# Altium schematic symbol library ThangTM_Sch.SchLib: 137 symbols (part 4 of 4)
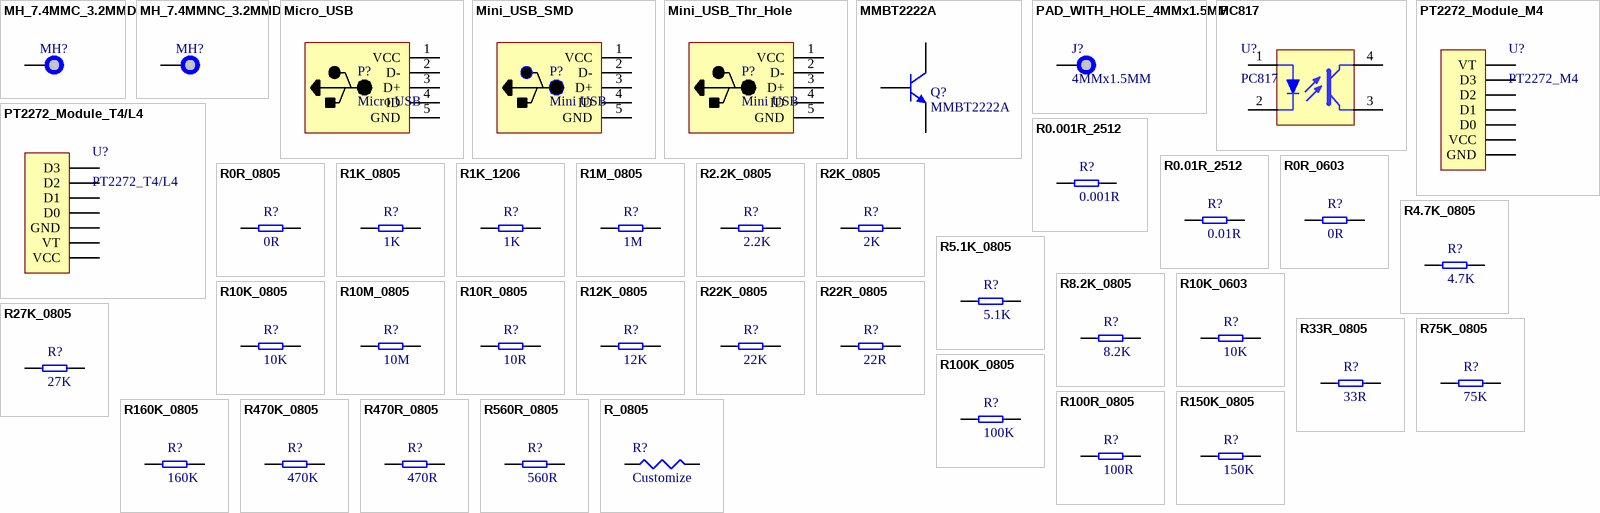
[diagram p6: symbols MH_7.4MMC_3.2MMD to R_0805]

## R27K_0805
designator R?, comment 27K
RES SMD 27K OHM 5% 1/8W 0805; Manufacturer: Yageo; Manufacturer Part Number: RC0805JR-0727KL; Resistance: 27kR; Temperature Coefficient: 100ppm/°C; Power Rating: 125mW; Voltage Rating: 150V; Supplier 1: Digi-Key; Supplier Part Number 1: 311-27KARCT-ND; Stock 1: 242607; Pricing 1: 1 = 0.10000, 10 = 0.03500, 100 = 0.01400, 1000 = 0.00631, 2500 = 0.00548 (USD); RoHS: Yes; Case/Package: 0805; Contact Plating: Tin,Matte,Lead; Case Code (Imperial): 0805; Case Code (Metric): 2012; Min Operating Temperature: -55°C; Max Operating Temperature: 155°C; Tolerance: 5%; Composition: Thick Film; Packaging: Tape and Reel; Package Quantity: 1; Termination: SMD/SMT; Number of Terminations: 2; Military Standard: Not; Max Power Dissipation: 125mW; Features: Moisture Resistant; Length: 2mm; Height: 0.024inch; Width: 1.25mm; Depth: 1.25mm; Radiation Hardening: No; REACH SVHC: Unknown; Lead Free: Lead Free; ComponentLink1URL: https://datasheet.ciiva.com/12558/rc0805-257173-12558805.pdf?src-supplier=Mouser; ComponentLink1Description: https://datasheet.ciiva.com/12558/rc0805-257173-12558805.pdf?src-supplier=Mouser; ComponentLink2URL: https://datasheet.ciiva.com/16742/rc0805-16742277.pdf?src-supplier=Future+Electronics; ComponentLink2Description: https://datasheet.ciiva.com/16742/rc0805-16742277.pdf?src-supplier=Future+Electronics; ComponentLink3URL: https://datasheet.ciiva.com/2491/pyu-r-int-thick-7-2491369.pdf?src-supplier=Digi-Key; ComponentLink3Description: https://datasheet.ciiva.com/2491/pyu-r-int-thick-7-2491369.pdf?src-supplier=Digi-Key; ComponentLink4URL: https://datasheet.ciiva.com/7941/442941-7941929.pdf?src-supplier=Element14; ComponentLink4Description: https://datasheet.ciiva.com/7941/442941-7941929.pdf?src-supplier=Element14; ComponentLink5URL: https://datasheet.ciiva.com/2491/pyu-r-int-thick-7-2491370.pdf?src-supplier=Digi-Key; ComponentLink5Description: https://datasheet.ciiva.com/2491/pyu-r-int-thick-7-2491370.pdf?src-supplier=Digi-Key; ComponentLink6URL: https://datasheet.ciiva.com/7941/442941-7941930.pdf?src-supplier=Element14; ComponentLink6Description: https://datasheet.ciiva.com/7941/442941-7941930.pdf?src-supplier=Element14; ComponentLink7URL: https://datasheet.ciiva.com/2491/pyu-r-int-thick-7-2491371.pdf?src-supplier=Digi-Key; ComponentLink7Description: https://datasheet.ciiva.com/2491/pyu-r-int-thick-7-2491371.pdf?src-supplier=Digi-Key
footprint R0805
pins: 1, 2

## R33R_0805
designator R?, comment 33R
RES SMD 33 OHM 5% 1/8W 0805; Manufacturer: Yageo; Manufacturer Part Number: RC0805JR-0733RL; Temperature Coefficient: 100ppm/°C; Power Rating: 125mW; Voltage Rating: 150V; Supplier 1: Digi-Key; Supplier Part Number 1: 311-33ARCT-ND; Stock 1: 362620; Pricing 1: 1 = 0.10000, 10 = 0.03500, 100 = 0.01400, 1000 = 0.00631, 2500 = 0.00548 (USD); RoHS: Yes; Case/Package: 0805; Weight: 0.000194oz; Contact Plating: Tin,Lead,Matte; Case Code (Imperial): 0805; Case Code (Metric): 2012; Min Operating Temperature: -55°C; Max Operating Temperature: 155°C; Tolerance: 5%; Resistance: 33R; Composition: Thick Film; Packaging: Tape and Reel; Termination: SMD/SMT; Military Standard: Not; Length: 2mm; Height: 0.5mm; Width: 1.25mm; Depth: 1.25mm; Radiation Hardening: No; REACH SVHC: Unknown; Lead Free: Lead Free; ComponentLink1URL: https://datasheet.ciiva.com/17053/rc0805-17053447.pdf?src-supplier=Future+Electronics; ComponentLink1Description: https://datasheet.ciiva.com/17053/rc0805-17053447.pdf?src-supplier=Future+Electronics; ComponentLink2URL: https://datasheet.ciiva.com/7941/442941-7941947.pdf?src-supplier=Element14; ComponentLink2Description: https://datasheet.ciiva.com/7941/442941-7941947.pdf?src-supplier=Element14; ComponentLink3URL: https://datasheet.ciiva.com/7941/442941-7941948.pdf?src-supplier=Element14; ComponentLink3Description: https://datasheet.ciiva.com/7941/442941-7941948.pdf?src-supplier=Element14
footprint R0805
pins: 1, 2

## R75K_0805
designator R?, comment 75K
RES SMD 75K OHM 5% 1/8W 0805; Manufacturer: Yageo; Manufacturer Part Number: RC0805JR-0727KL; Resistance: 27kR; Temperature Coefficient: 100ppm/°C; Power Rating: 125mW; Voltage Rating: 150V; Supplier 1: Digi-Key; Supplier Part Number 1: 311-27KARCT-ND; Stock 1: 242607; Pricing 1: 1 = 0.10000, 10 = 0.03500, 100 = 0.01400, 1000 = 0.00631, 2500 = 0.00548 (USD); RoHS: Yes; Case/Package: 0805; Contact Plating: Tin,Matte,Lead; Case Code (Imperial): 0805; Case Code (Metric): 2012; Min Operating Temperature: -55°C; Max Operating Temperature: 155°C; Tolerance: 5%; Composition: Thick Film; Packaging: Tape and Reel; Package Quantity: 1; Termination: SMD/SMT; Number of Terminations: 2; Military Standard: Not; Max Power Dissipation: 125mW; Features: Moisture Resistant; Length: 2mm; Height: 0.024inch; Width: 1.25mm; Depth: 1.25mm; Radiation Hardening: No; REACH SVHC: Unknown; Lead Free: Lead Free
footprint R0805
pins: 1, 2

## R100K_0805
designator R?, comment 100K
RES SMD 100K OHM 1% 1/8W 0805; Manufacturer: Yageo; Manufacturer Part Number: RC0805FR-07100KL; Resistance: 100kR; Temperature Coefficient: 100ppm/°C; Power Rating: 125mW; Voltage Rating (DC): 150V; Supplier 1: Digi-Key; Supplier Part Number 1: 311-100KCRCT-ND; Stock 1: 7776000; Pricing 1: 1 = 0.10000, 10 = 0.03800, 100 = 0.01550, 1000 = 0.00694, 2500 = 0.00603 (USD); RoHS: Yes; Case/Package: 0805; Number of Pins: 2; Case Code (Metric): 2012; Case Code (Imperial): 0805; Min Operating Temperature: -55°C; Max Operating Temperature: 155°C; Composition: Thick Film; Tolerance: 1%; Packaging: Tape and Reel; Voltage Rating: 150V; Package Quantity: 1; Number of Terminations: 2; Termination: SMD/SMT; Military Standard: Not; Max Power Dissipation: 125mW; Features: Moisture Resistant; Length: 2mm; Height: 0.024inch; Width: 0.049inch; Depth: 1.25mm; Lead Pitch: 0.4mm; REACH SVHC: Unknown; Lead Free: Lead Free; ComponentLink1URL: https://datasheet.ciiva.com/11808/0900766b8106beab-11808858.pdf?src-supplier=RSComponents; ComponentLink1Description: https://datasheet.ciiva.com/11808/0900766b8106beab-11808858.pdf?src-supplier=RSComponents; ComponentLink2URL: https://datasheet.ciiva.com/2457/pyu-r-int-thick-7-2457017.pdf?src-supplier=Digi-Key; ComponentLink2Description: https://datasheet.ciiva.com/2457/pyu-r-int-thick-7-2457017.pdf?src-supplier=Digi-Key; ComponentLink3URL: https://datasheet.ciiva.com/12667/rc0805-12667001.pdf?src-supplier=Mouser; ComponentLink3Description: https://datasheet.ciiva.com/12667/rc0805-12667001.pdf?src-supplier=Mouser; ComponentLink4URL: https://datasheet.ciiva.com/2457/pyu-r-int-thick-7-2457018.pdf?src-supplier=Digi-Key; ComponentLink4Description: https://datasheet.ciiva.com/2457/pyu-r-int-thick-7-2457018.pdf?src-supplier=Digi-Key; ComponentLink5URL: https://datasheet.ciiva.com/16747/rc0805-16747226.pdf?src-supplier=Future+Electronics; ComponentLink5Description: https://datasheet.ciiva.com/16747/rc0805-16747226.pdf?src-supplier=Future+Electronics; ComponentLink6URL: https://datasheet.ciiva.com/2457/pyu-r-int-thick-7-2457019.pdf?src-supplier=Digi-Key; ComponentLink6Description: https://datasheet.ciiva.com/2457/pyu-r-int-thick-7-2457019.pdf?src-supplier=Digi-Key; ComponentLink7URL: https://datasheet.ciiva.com/7660/38627-7660796.pdf?src-supplier=Element14; ComponentLink7Description: https://datasheet.ciiva.com/7660/38627-7660796.pdf?src-supplier=Element14; ComponentLink8URL: https://datasheet.ciiva.com/7941/1697719-7941676.pdf?src-supplier=Element14; ComponentLink8Description: https://datasheet.ciiva.com/7941/1697719-7941676.pdf?src-supplier=Element14; ComponentLink9URL: https://datasheet.ciiva.com/7941/1686128-7941677.pdf?src-supplier=Element14; ComponentLink9Description: https://datasheet.ciiva.com/7941/1686128-7941677.pdf?src-supplier=Element14; ComponentLink10URL: https://datasheet.ciiva.com/7941/1697719-7941678.pdf?src-supplier=Element14; ComponentLink10Description: https://datasheet.ciiva.com/7941/1697719-7941678.pdf?src-supplier=Element14; ComponentLink11URL: https://datasheet.ciiva.com/22747/444164-22747534.pdf?src-supplier=Element14; ComponentLink11Description: https://datasheet.ciiva.com/22747/444164-22747534.pdf?src-supplier=Element14
footprint R0805
pins: 1, 2

## R100R_0805
designator R?, comment 100R
RES SMD 100 OHM 1% 1/5W 0805; Manufacturer: Vishay Beyschlag; Manufacturer Part Number: MCU08050C1000FP500; Temperature Coefficient: 50ppm/°C; Power Rating: 125mW; Voltage Rating: 150V; Max Power Dissipation: 200mW; Dielectric Material: Ceramic; Capacitance: 22pF; Dielectric: C0G; Voltage: 50V; Supplier 1: Digi-Key; Supplier Part Number 1: MCU0805-100-CFCT-ND; Stock 1: 280858; Pricing 1: 1 = 0.41000, 10 = 0.31500, 100 = 0.13230, 1000 = 0.07300, 2500 = 0.06843 (USD); RoHS: Yes; Case/Package: 0805; Weight: 0.000162oz; Contact Plating: Tin; Case Code (Metric): 2012; Case Code (Imperial): 0805; Min Operating Temperature: -55°C; Max Operating Temperature: 125°C; Resistance: 100R; Tolerance: 1%; Composition: Thin Film; Package Quantity: 1; Packaging: Tape and Reel; Number of Terminations: 2; Termination: SMD/SMT; Military Standard: Not; Voltage Rating (DC): 150V; Length: 2mm; Height: 0.024inch; Width: 0.049inch; Depth: 1.25mm; Radiation Hardening: No; REACH SVHC: No SVHC; Lead Free: Lead Free; ComponentLink1URL: https://datasheet.ciiva.com/2478/mc-pro-2478032.pdf?src-supplier=Digi-Key; ComponentLink1Description: https://datasheet.ciiva.com/2478/mc-pro-2478032.pdf?src-supplier=Digi-Key; ComponentLink2URL: https://datasheet.ciiva.com/8902/mc-pro-8902618.pdf?src-supplier=Avnet; ComponentLink2Description: https://datasheet.ciiva.com/8902/mc-pro-8902618.pdf?src-supplier=Avnet; ComponentLink3URL: https://datasheet.ciiva.com/16895/mc-pro-16895259.pdf?src-supplier=Avnet+Europe; ComponentLink3Description: https://datasheet.ciiva.com/16895/mc-pro-16895259.pdf?src-supplier=Avnet+Europe; ComponentLink4URL: https://datasheet.ciiva.com/2478/mc-pro-2478030.pdf?src-supplier=Digi-Key; ComponentLink4Description: https://datasheet.ciiva.com/2478/mc-pro-2478030.pdf?src-supplier=Digi-Key; ComponentLink5URL: https://datasheet.ciiva.com/2478/mc-pro-2478031.pdf?src-supplier=Digi-Key; ComponentLink5Description: https://datasheet.ciiva.com/2478/mc-pro-2478031.pdf?src-supplier=Digi-Key; Supplier 2: Digi-Key; Supplier Part Number 2: 399-1113-6-ND; Stock 2: 467180; Pricing 2: 1 = 0.10000, 10 = 0.07000, 100 = 0.03100, 500 = 0.02214, 1000 = 0.01739 (USD); Mount: PCB,Surface Mount; Contact Material: Tin; Thickness: 0.035inch; ComponentLink6URL: https://datasheet.ciiva.com/7842/kem-c1003-c0g-smd-7842569.pdf?src-supplier=Element14; ComponentLink6Description: https://datasheet.ciiva.com/7842/kem-c1003-c0g-smd-7842569.pdf?src-supplier=Element14; ComponentLink7URL: https://datasheet.ciiva.com/28668/1789732-28668761.pdf?src-supplier=Element14; ComponentLink7Description: https://datasheet.ciiva.com/28668/1789732-28668761.pdf?src-supplier=Element14; ComponentLink8URL: https://datasheet.ciiva.com/7842/1732694-7842251.pdf?src-supplier=Element14; ComponentLink8Description: https://datasheet.ciiva.com/7842/1732694-7842251.pdf?src-supplier=Element14
footprint R0805
pins: 1, 2

## R150K_0805
designator R?, comment 150K
RES SMD 150K OHM 5% 1/8W 0805; Manufacturer: Yageo; Manufacturer Part Number: RC0805JR-07150KL; Resistance: 150kR; Temperature Coefficient: 100ppm/°C; Power Rating: 125mW; Voltage Rating: 150V; Supplier 1: Digi-Key; Supplier Part Number 1: 311-150KARCT-ND; Stock 1: 94393; Pricing 1: 1 = 0.10000, 10 = 0.03500, 100 = 0.01400, 1000 = 0.00631, 2500 = 0.00548 (USD); RoHS: Yes; Case/Package: 0805; Weight: 0.000194oz; Contact Plating: Tin,Lead,Matte; Case Code (Imperial): 0805; Case Code (Metric): 2012; Min Operating Temperature: -55°C; Max Operating Temperature: 155°C; Tolerance: 5%; Composition: Thick Film; Packaging: Tape and Reel; Termination: SMD/SMT; Military Standard: Not; Length: 2mm; Height: 0.5mm; Width: 1.25mm; Depth: 1.25mm; Radiation Hardening: No; REACH SVHC: Unknown; Lead Free: Lead Free; ComponentLink1URL: https://datasheet.ciiva.com/5596/rc0805-5596069.pdf?src-supplier=Mouser; ComponentLink1Description: https://datasheet.ciiva.com/5596/rc0805-5596069.pdf?src-supplier=Mouser; ComponentLink2URL: https://datasheet.ciiva.com/16777/rc0805-16777738.pdf?src-supplier=Future+Electronics; ComponentLink2Description: https://datasheet.ciiva.com/16777/rc0805-16777738.pdf?src-supplier=Future+Electronics; ComponentLink3URL: https://datasheet.ciiva.com/7941/442941-7941885.pdf?src-supplier=Element14; ComponentLink3Description: https://datasheet.ciiva.com/7941/442941-7941885.pdf?src-supplier=Element14; ComponentLink4URL: https://datasheet.ciiva.com/7941/442941-7941886.pdf?src-supplier=Element14; ComponentLink4Description: https://datasheet.ciiva.com/7941/442941-7941886.pdf?src-supplier=Element14
footprint R0805
pins: 1, 2

## R160K_0805
designator R?, comment 160K
RES SMD 160K OHM 1% 1/8W 0805; Manufacturer: Yageo; Manufacturer Part Number: RC0805FR-07160KL; Power Rating: 125mW; Resistance: 160kR; Voltage Rating: 150V; Temperature Coefficient: 100ppm/°C; Supplier 1: Digi-Key; Supplier Part Number 1: 311-160KCRCT-ND; Stock 1: 48562; Pricing 1: 1 = 0.10000, 10 = 0.04000, 100 = 0.01630, 1000 = 0.00731, 2500 = 0.00635 (USD); RoHS: Yes; Mount: Surface Mount; Case/Package: 0805; Case Code (Metric): 2012; Case Code (Imperial): 0805; Min Operating Temperature: -55°C; Max Operating Temperature: 155°C; Tolerance: 1%; Package Quantity: 1; Packaging: Tape and Reel; Composition: Thick Film; Number of Terminations: 2; Termination: SMD/SMT; Max Power Dissipation: 125mW; Voltage Rating (DC): 150V; Features: Moisture Resistant; Length: 2mm; Height: 0.5mm; Width: 0.049inch; Depth: 1.25mm; Lead Free: Lead Free; ComponentLink1URL: https://datasheet.ciiva.com/11808/0900766b8106beab-11808868.pdf?src-supplier=RSComponents; ComponentLink1Description: https://datasheet.ciiva.com/11808/0900766b8106beab-11808868.pdf?src-supplier=RSComponents; ComponentLink2URL: https://datasheet.ciiva.com/17061/rc0805-17061772.pdf?src-supplier=Future+Electronics; ComponentLink2Description: https://datasheet.ciiva.com/17061/rc0805-17061772.pdf?src-supplier=Future+Electronics; ComponentLink3URL: https://datasheet.ciiva.com/2457/pyu-r-int-thick-7-2457005.pdf?src-supplier=Digi-Key; ComponentLink3Description: https://datasheet.ciiva.com/2457/pyu-r-int-thick-7-2457005.pdf?src-supplier=Digi-Key; ComponentLink4URL: https://datasheet.ciiva.com/2457/pyu-r-int-thick-7-2457006.pdf?src-supplier=Digi-Key; ComponentLink4Description: https://datasheet.ciiva.com/2457/pyu-r-int-thick-7-2457006.pdf?src-supplier=Digi-Key; ComponentLink5URL: https://datasheet.ciiva.com/2457/pyu-r-int-thick-7-2457007.pdf?src-supplier=Digi-Key; ComponentLink5Description: https://datasheet.ciiva.com/2457/pyu-r-int-thick-7-2457007.pdf?src-supplier=Digi-Key
footprint R0805
pins: 1, 2

## R470K_0805
designator R?, comment 470K
RES SMD 470K OHM 5% 1/8W 0805; Manufacturer: Yageo; Manufacturer Part Number: RC0805JR-07470KL; Resistance: 470kR; Temperature Coefficient: 100ppm/°C; Power Rating: 125mW; Voltage Rating: 150V; Supplier 1: Digi-Key; Stock 1: 314709; Pricing 1: 1 = 0.10000, 10 = 0.03500, 100 = 0.01400, 1000 = 0.00631, 2500 = 0.00548 (USD); RoHS: Yes; Case/Package: 0805; Contact Plating: Tin,Lead,Matte; Case Code (Metric): 2012; Case Code (Imperial): 0805; Min Operating Temperature: -55°C; Max Operating Temperature: 155°C; Tolerance: 5%; Composition: Thick Film; Package Quantity: 1; Packaging: Tape and Reel; Number of Terminations: 2; Termination: SMD/SMT; Military Standard: Not; Max Power Dissipation: 125mW; Features: Moisture Resistant; Length: 2mm; Height: 0.024inch; Width: 0.049inch; Depth: 1.25mm; Radiation Hardening: No; REACH SVHC: Unknown; Lead Free: Lead Free; ComponentLink1URL: https://datasheet.ciiva.com/2456/pyu-r-int-thick-7-2456113.pdf?src-supplier=Digi-Key; ComponentLink1Description: https://datasheet.ciiva.com/2456/pyu-r-int-thick-7-2456113.pdf?src-supplier=Digi-Key; ComponentLink2URL: https://datasheet.ciiva.com/2456/pyu-r-int-thick-7-2456114.pdf?src-supplier=Digi-Key; ComponentLink2Description: https://datasheet.ciiva.com/2456/pyu-r-int-thick-7-2456114.pdf?src-supplier=Digi-Key; ComponentLink3URL: https://datasheet.ciiva.com/2456/pyu-r-int-thick-7-2456115.pdf?src-supplier=Digi-Key; ComponentLink3Description: https://datasheet.ciiva.com/2456/pyu-r-int-thick-7-2456115.pdf?src-supplier=Digi-Key; ComponentLink4URL: https://datasheet.ciiva.com/15190/getdatasheetpartid-323887-15190053.pdf?src-supplier=Verical; ComponentLink4Description: https://datasheet.ciiva.com/15190/getdatasheetpartid-323887-15190053.pdf?src-supplier=Verical; ComponentLink5URL: https://datasheet.ciiva.com/16747/rc0805-16747222.pdf?src-supplier=Future+Electronics; ComponentLink5Description: https://datasheet.ciiva.com/16747/rc0805-16747222.pdf?src-supplier=Future+Electronics; ComponentLink6URL: https://datasheet.ciiva.com/7941/442941-7941963.pdf?src-supplier=Element14; ComponentLink6Description: https://datasheet.ciiva.com/7941/442941-7941963.pdf?src-supplier=Element14; ComponentLink7URL: https://datasheet.ciiva.com/7941/442941-7941964.pdf?src-supplier=Element14; ComponentLink7Description: https://datasheet.ciiva.com/7941/442941-7941964.pdf?src-supplier=Element14; Supplier Part Number 1: 311-470KARCT-ND
footprint R0805
pins: 1, 2

## R470R_0805
designator R?, comment 470R
footprint R0805
pins: 1, 2

## R560R_0805
designator R?, comment 560R
RES SMD 560 OHM 1% 1/8W 0805; Manufacturer: Yageo; Manufacturer Part Number: RC0805FR-07560RL; Temperature Coefficient: 100ppm/°C; Power Rating: 125mW; Voltage Rating: 150V; Supplier 1: Digi-Key; Supplier Part Number 1: 311-560CRCT-ND; Stock 1: 546986; Pricing 1: 1 = 0.10000, 10 = 0.04000, 100 = 0.01630, 1000 = 0.00731, 2500 = 0.00635 (USD); RoHS: Yes; Case/Package: 0805; Weight: 0.000194oz; Case Code (Metric): 2012; Case Code (Imperial): 0805; Min Operating Temperature: -55°C; Max Operating Temperature: 155°C; Tolerance: 1%; Resistance: 560R; Composition: Thick Film; Packaging: Tape and Reel; Package Quantity: 1; Number of Terminations: 2; Termination: SMD/SMT; Military Standard: Not; Max Power Dissipation: 125mW; Features: Moisture Resistant; Length: 2mm; Height: 0.5mm; Width: 0.049inch; Depth: 1.25mm; REACH SVHC: Unknown; Lead Free: Lead Free; ComponentLink1URL: https://datasheet.ciiva.com/5561/rc0805-5561861.pdf?src-supplier=Mouser; ComponentLink1Description: https://datasheet.ciiva.com/5561/rc0805-5561861.pdf?src-supplier=Mouser; ComponentLink2URL: https://datasheet.ciiva.com/2457/pyu-r-int-thick-7-2457142.pdf?src-supplier=Digi-Key; ComponentLink2Description: https://datasheet.ciiva.com/2457/pyu-r-int-thick-7-2457142.pdf?src-supplier=Digi-Key; ComponentLink3URL: https://datasheet.ciiva.com/2457/pyu-r-int-thick-7-2457140.pdf?src-supplier=Digi-Key; ComponentLink3Description: https://datasheet.ciiva.com/2457/pyu-r-int-thick-7-2457140.pdf?src-supplier=Digi-Key; ComponentLink4URL: https://datasheet.ciiva.com/2457/pyu-r-int-thick-7-2457141.pdf?src-supplier=Digi-Key; ComponentLink4Description: https://datasheet.ciiva.com/2457/pyu-r-int-thick-7-2457141.pdf?src-supplier=Digi-Key; ComponentLink5URL: https://datasheet.ciiva.com/7941/444164-7941813.pdf?src-supplier=Element14; ComponentLink5Description: https://datasheet.ciiva.com/7941/444164-7941813.pdf?src-supplier=Element14; ComponentLink6URL: https://datasheet.ciiva.com/7941/444164-7941814.pdf?src-supplier=Element14; ComponentLink6Description: https://datasheet.ciiva.com/7941/444164-7941814.pdf?src-supplier=Element14
footprint R0805
pins: 1, 2

## R_0805
designator R?, comment Customize
footprint R0805
pins: 1, 2

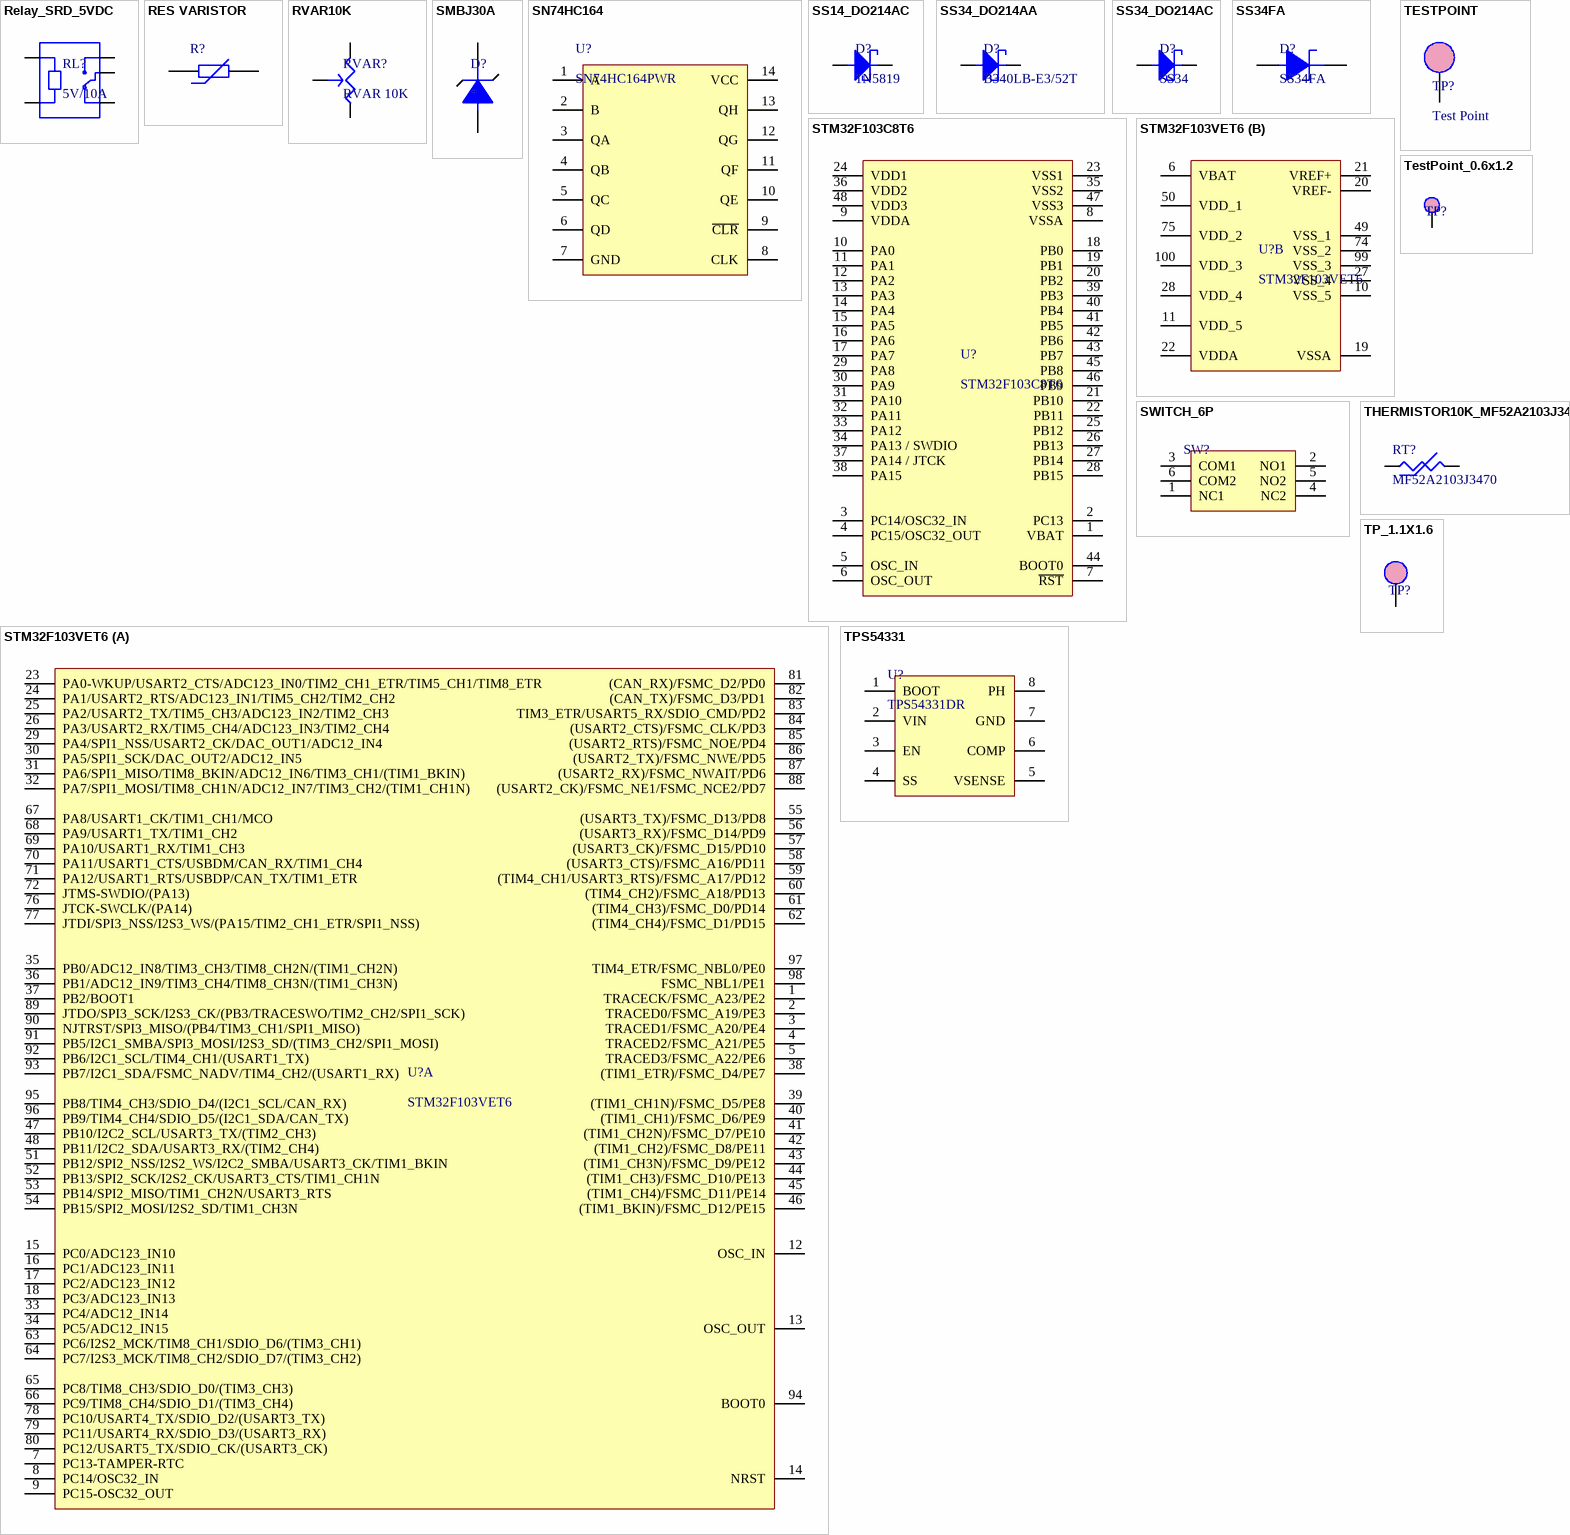
[diagram p3: symbols Relay_SRD_5VDC to TPS54331]

## Relay_SRD_5VDC
designator RL?, comment 5V/10A
footprint Relay_SRD
pins: A1, A2, COM, NC, NO

## RES VARISTOR
designator R?
Varistor (Voltage-Sensitive Resistor); Published: 24-Mar-1999; LatestRevisionDate: 29-May-2009; LatestRevisionNote: IPC-7351 Footprint Added.; PackageVersion: Mar-2003; PackageReference: 6-0805; Publisher: Altium Limited; PackageDescription: Chip Resistor 0805 Case Size; Code_IPC: RESC2012
footprint 6-0805_N (Chip Resistor, Body 2.0x1.2mm, IPC Medium Density)
footprint 6-0805_L (Chip Resistor, Body 2.0x1.2mm, IPC High Density)
footprint 6-0805_M (Chip Resistor, Body 2.0x1.2mm, IPC Low Density)
pins: 1, 2

## RVAR10K
designator RVAR?, comment RVAR 10K
footprint RVAR1
pins: 1, 2, 3

## SMBJ30A
designator D?
TVS DIODE 30VWM 48.4VC SMB; Manufacturer: Littelfuse; Manufacturer Part Number: SMBJ30A; Voltage Rating (DC): 30V; Clamping Voltage: 48.4V; Peak Pulse Power: 600W; Min Breakdown Voltage: 33.3V; Test Current: 1mA; Peak Pulse Current: 12.4A; Direction: Unidirectional; Number of Elements: 1; Power Line Protection: No; Max Reverse Leakage Current: 1uA; Current: 62A; Max Breakdown Voltage: 36.8V; Max Power Dissipation: 5W; Element Configuration: Single; Supplier 1: Digi-Key; Stock 1: 25912; Pricing 1: 1=0.35000, 10=0.28700, 25=0.26240, 100=0.16480, 250=0.16300, 500=0.15262, 1000=0.10379 (USD); RoHS: Yes; Mount: Surface Mount; Case/Package: SMB; Number of Pins: 2; Min Operating Temperature: -65°C; Max Operating Temperature: 150°C; Packaging: Tape and Reel; Reverse Standoff Voltage: 30V; Power Dissipation: 600W; Reverse Breakdown Voltage: 33.3V; Package Quantity: 3000; Operating Supply Voltage: 30V; Max Surge Current: 12.4A; Breakdown Voltage: 33.3V; Number of Channels: 1; Polarity: Unidirectional; Termination: SMD/SMT; Number of Unidirectional Channels: 1; Leakage Current: 1uA; Voltage: 30V; Composition: Zener; Length: 4.57mm; Height: 2.237mm; Width: 3.94mm; Radiation Hardening: No; Lead Free: Lead Free; REACH SVHC: No SVHC; ComponentLink1URL: https://datasheet.ciiva.com/25624/0900766b810f4eeb-25624816.pdf?src-supplier=RSComponents; ComponentLink1Description: https://datasheet.ciiva.com/25624/0900766b810f4eeb-25624816.pdf?src-supplier=RSComponents; ComponentLink2URL: https://datasheet.ciiva.com/15143/getdatasheetpartid-117004-15143557.pdf?src-supplier=Verical; ComponentLink2Description: https://datasheet.ciiva.com/15143/getdatasheetpartid-117004-15143557.pdf?src-supplier=Verical; ComponentLink3URL: https://datasheet.ciiva.com/331/littelfuse-tvs-diode-smbj-datasheet-pdf-331143.pdf?src-supplier=Digi-Key; ComponentLink3Description: https://datasheet.ciiva.com/331/littelfuse-tvs-diode-smbj-datasheet-pdf-331143.pdf?src-supplier=Digi-Key; ComponentLink4URL: https://datasheet.ciiva.com/331/littelfuse-tvs-diode-smbj-datasheet-pdf-331144.pdf?src-supplier=Digi-Key; ComponentLink4Description: https://datasheet.ciiva.com/331/littelfuse-tvs-diode-smbj-datasheet-pdf-331144.pdf?src-supplier=Digi-Key; ComponentLink5URL: https://datasheet.ciiva.com/8062/littelfuse-tvs-diode-smbj-8062328.pdf?src-supplier=Element14; ComponentLink5Description: https://datasheet.ciiva.com/8062/littelfuse-tvs-diode-smbj-8062328.pdf?src-supplier=Element14; ComponentLink6URL: https://datasheet.ciiva.com/331/littelfuse-tvs-diode-smbj-datasheet-pdf-331145.pdf?src-supplier=Digi-Key; ComponentLink6Description: https://datasheet.ciiva.com/331/littelfuse-tvs-diode-smbj-datasheet-pdf-331145.pdf?src-supplier=Digi-Key; ComponentLink7URL: https://datasheet.ciiva.com/46381/1794555-46381705.pdf?src-supplier=Element14; ComponentLink7Description: https://datasheet.ciiva.com/46381/1794555-46381705.pdf?src-supplier=Element14; ComponentLink8URL: https://datasheet.ciiva.com/14162/smbj-eng-ds-14162014.pdf?src-supplier=Distrelec; ComponentLink8Description: https://datasheet.ciiva.com/14162/smbj-eng-ds-14162014.pdf?src-supplier=Distrelec; Supplier Part Number 1: SMBJ30ALFCT-ND
footprint DO214AA SMB
pins: 1 Anode, 2 Cathode

## SN74HC164
designator U?, comment SN74HC164PWR
IC SHFT REG SERIAL 8BIT 14-TSSOP; Manufacturer: Texas Instruments; Logic Function: Shift Register; Number of Elements: 1; Direction: Unidirectional; Operating Supply Voltage: 5V; Propagation Delay: 255ns; Max Supply Voltage: 6V; Min Supply Voltage: 2V; Number of Bits per Element: 8; Number of Input Lines: 2; Supplier 1: Digi-Key; Supplier Part Number 1: 296-14020-1-ND; Manufacturer Part Number: SN74HC164PWR; Stock 1: 63892; Pricing 1: 1 = 0.38000, 10 = 0.28300, 100 = 0.17610, 500 = 0.12052, 1000 = 0.09270 (USD); RoHS: Yes; Mount: Surface Mount; Case/Package: TSSOP; Number of Pins: 14; Weight: 0.002018oz; Contact Plating: Gold; Min Operating Temperature: -40°C; Max Operating Temperature: 125°C; Packaging: Tape and Reel; Package Quantity: 2000; Number of Circuits: 1; Number of Bits: 8; Turn-On Delay Time: 255ns; Number of Output Lines: 8; Radiation Hardening: No; Lead Free: Lead Free; REACH SVHC: No SVHC; ComponentLink1URL: https://datasheet.ciiva.com/14295/sn54hc164-sp-14295232.pdf?src-supplier=Avnet; ComponentLink1Description: https://datasheet.ciiva.com/14295/sn54hc164-sp-14295232.pdf?src-supplier=Avnet; ComponentLink2URL: https://datasheet.ciiva.com/15093/getdatasheetpartid-250108-15093636.pdf?src-supplier=Verical; ComponentLink2Description: https://datasheet.ciiva.com/15093/getdatasheetpartid-250108-15093636.pdf?src-supplier=Verical; ComponentLink3URL: https://datasheet.ciiva.com/41456/001016677-da-01-en-ic-shft-8bit-s-sn74hc164pwr-tssop-14-tid-41456969.pdf?src-supplier=Conrad; ComponentLink3Description: https://datasheet.ciiva.com/41456/001016677-da-01-en-ic-shft-8bit-s-sn74hc164pwr-tssop-14-tid-41456969.pdf?src-supplier=Conrad; ComponentLink4URL: https://datasheet.ciiva.com/46397/1874575-46397222.pdf?src-supplier=Element14; ComponentLink4Description: https://datasheet.ciiva.com/46397/1874575-46397222.pdf?src-supplier=Element14; ComponentLink5URL: https://datasheet.ciiva.com/1886/sn74hc164-1886221.pdf?src-supplier=Digi-Key; ComponentLink5Description: https://datasheet.ciiva.com/1886/sn74hc164-1886221.pdf?src-supplier=Digi-Key; ComponentLink6URL: https://datasheet.ciiva.com/26259/sn54hc164-sp-26259885.pdf?src-supplier=Avnet+Europe; ComponentLink6Description: https://datasheet.ciiva.com/26259/sn54hc164-sp-26259885.pdf?src-supplier=Avnet+Europe; ComponentLink7URL: https://datasheet.ciiva.com/1886/sn74hc164-1886222.pdf?src-supplier=Digi-Key; ComponentLink7Description: https://datasheet.ciiva.com/1886/sn74hc164-1886222.pdf?src-supplier=Digi-Key; ComponentLink8URL: https://datasheet.ciiva.com/1886/sn74hc164-1886223.pdf?src-supplier=Digi-Key; ComponentLink8Description: https://datasheet.ciiva.com/1886/sn74hc164-1886223.pdf?src-supplier=Digi-Key
footprint TSSOP14
pins: 1 A, 2 B, 3 QA, 4 QB, 5 QC, 6 QD, 7 GND, 8 CLK, 9 ~{CLR}, 10 QE, 11 QF, 12 QG, 13 QH, 14 VCC

## SS14_DO214AC
designator D?, comment 1N5819
footprint DO214AC_SMA
pins: 1 Anode, 2 Cathode

## SS34_DO214AA
designator D?, comment B340LB-E3/52T
Diode Schottky 40V 3A 2-Pin SMB T/R; Manufacturer: Vishay Semiconductors; Peak Reverse Current: 400uA; Element Configuration: Single; Peak Non-Repetitive Surge Current: 100A; Forward Voltage: 450mV; Supplier 1: Digi-Key; Supplier Part Number 1: B340LB-E3/52TGICT-ND; Manufacturer Part Number: B340LB-E3/52T; Stock 1: 8431; Pricing 1: 1 = 0.48000, 10 = 0.41300, 100 = 0.28630 (USD); RoHS: Yes; Mount: Surface Mount; Case/Package: SMB; Number of Pins: 2; Min Operating Temperature: -65°C; Max Operating Temperature: 150°C; Forward Current: 3A; Max Repetitive Reverse Voltage (Vrrm): 40V; Max Surge Current: 100A; Packaging: Tape and Reel; Package Quantity: 1; Max Reverse Leakage Current: 400uA; Average Rectified Current: 3A; Max Reverse Voltage (DC): 40V; Radiation Hardening: No; Lead Free: Lead Free; ComponentLink1URL: https://datasheet.ciiva.com/4715/b340lb-108402-4715032.pdf?src-supplier=Mouser; ComponentLink1Description: https://datasheet.ciiva.com/4715/b340lb-108402-4715032.pdf?src-supplier=Mouser; ComponentLink2URL: https://datasheet.ciiva.com/4245/b340lb-4245021.pdf?src-supplier=Arrow; ComponentLink2Description: https://datasheet.ciiva.com/4245/b340lb-4245021.pdf?src-supplier=Arrow; ComponentLink3URL: https://datasheet.ciiva.com/16422/b340lb-16422501.pdf?src-supplier=Future+Electronics; ComponentLink3Description: https://datasheet.ciiva.com/16422/b340lb-16422501.pdf?src-supplier=Future+Electronics; ComponentLink4URL: https://datasheet.ciiva.com/917/b340lb-917356.pdf?src-supplier=Digi-Key; ComponentLink4Description: https://datasheet.ciiva.com/917/b340lb-917356.pdf?src-supplier=Digi-Key; ComponentLink5URL: https://datasheet.ciiva.com/917/b340lb-917357.pdf?src-supplier=Digi-Key; ComponentLink5Description: https://datasheet.ciiva.com/917/b340lb-917357.pdf?src-supplier=Digi-Key; ComponentLink6URL: https://datasheet.ciiva.com/917/b340lb-917358.pdf?src-supplier=Digi-Key; ComponentLink6Description: https://datasheet.ciiva.com/917/b340lb-917358.pdf?src-supplier=Digi-Key; ComponentLink7URL: https://datasheet.ciiva.com/1240/b340lb-1240275.pdf?src-supplier=Newark; ComponentLink7Description: https://datasheet.ciiva.com/1240/b340lb-1240275.pdf?src-supplier=Newark; ComponentLink8URL: https://datasheet.ciiva.com/8283/b340lb-8283742.pdf?src-supplier=Avnet; ComponentLink8Description: https://datasheet.ciiva.com/8283/b340lb-8283742.pdf?src-supplier=Avnet; ComponentLink9URL: https://datasheet.ciiva.com/28375/b340lb-28375630.pdf?src-supplier=Avnet+Europe; ComponentLink9Description: https://datasheet.ciiva.com/28375/b340lb-28375630.pdf?src-supplier=Avnet+Europe
footprint DO214AA SMB
pins: 1 Anode, 2 Cathode

## SS34_DO214AC
designator D?, comment SS34
footprint DO214AC_SMA
pins: 1 Anode, 2 Cathode

## SS34FA
designator D?
DIODE SCHOTTKY 40V 3A SOD123FA; Manufacturer: ON Semiconductor / Fairchild; Element Configuration: Single; Max Forward Surge Current (Ifsm): 80A; Supplier 1: Digi-Key; Supplier Part Number 1: SS34FACT-ND; Manufacturer Part Number: SS34FA; Stock 1: 5610; Pricing 1: 1 = 0.36000, 10 = 0.29000, 100 = 0.16690, 500 = 0.15450, 1000 = 0.10506 (USD); RoHS: Yes; Mount: Surface Mount; Case/Package: SOD; Weight: 0.019g; Packaging: Tape and Reel; Max Repetitive Reverse Voltage (Vrrm): 40V; Average Rectified Current: 3A; Max Reverse Voltage (DC): 40V; ComponentLink1URL: http://www.mouser.com/ds/2/149/SS34FA-1012641.pdf?src-supplier=Mouser; ComponentLink1Description: http://www.mouser.com/ds/2/149/SS34FA-1012641.pdf?src-supplier=Mouser; ComponentLink2URL: http://www.farnell.com/datasheets/2552647.pdf?src-supplier=Farnell; ComponentLink2Description: http://www.farnell.com/datasheets/2552647.pdf?src-supplier=Farnell; ComponentLink3URL: https://www.fairchildsemi.com/datasheets/SS/SS34FA.pdf?src-supplier=Digi-Key; ComponentLink3Description: https://www.fairchildsemi.com/datasheets/SS/SS34FA.pdf?src-supplier=Digi-Key
footprint SOD123F
pins: 1 Anode, 2 Cathode

## STM32F103C8T6
designator U?
MCU 32-bit STM32F ARM Cortex M3 RISC 64KB Flash 2.5V/3.3V 48-Pin LQFP Tray; Manufacturer: STMicroelectronics; RAM Size: 20KB; Frequency: 72MHz; Max Power Dissipation: 363mW; Interface: I2C,SPI,USB,CAN,IrDA,UART,USART,LIN; Number of I/Os: 37; Number of Timers/Counters: 4; Max Supply Voltage: 3.6V; Number of ADC Channels: 10; Min Supply Voltage: 2V; Oscillator Type: Internal; Number of Programmable I/O: 48; Data Bus Width: 32b; Number of Bits: 32; Watchdog Timer: Yes; Peripherals: POR,PWM,WDT,DMA,Temp Sensor,I2C; Number of PWM Channels: 1; Number of SPI Channels: 2; Supplier 1: Digi-Key; Supplier Part Number 1: 497-6063-ND; Manufacturer Part Number: STM32F103C8T6; Stock 1: 3832; Pricing 1: 1 = 5.75000, 10 = 5.16700, 100 = 4.23310, 500 = 3.60352, 1000 = 3.03912 (USD); RoHS: Yes; Case/Package: LQFP; Number of Pins: 48; Min Operating Temperature: -40°C; Max Operating Temperature: 85°C; Packaging: Tray; Package Quantity: 250; Density: 64KB; Memory Type: FLASH; Max Frequency: 72MHz; Memory Size: 64KB; Core Architecture: ARM; Termination: SMD/SMT; Number of I2C Channels: 2; Address Bus Width: 32b; Length: 7mm; Height: 1.45mm; Width: 7.2mm; Radiation Hardening: No; Lead Free: Lead Free; REACH SVHC: No SVHC; ComponentLink1URL: https://datasheet.ciiva.com/15122/getdatasheetpartid-69880-15122076.pdf?src-supplier=Verical; ComponentLink1Description: https://datasheet.ciiva.com/15122/getdatasheetpartid-69880-15122076.pdf?src-supplier=Verical; ComponentLink2URL: https://datasheet.ciiva.com/26816/stm32f103c8t6-26816902.pdf?src-supplier=IIIC; ComponentLink2Description: https://datasheet.ciiva.com/26816/stm32f103c8t6-26816902.pdf?src-supplier=IIIC; ComponentLink3URL: https://datasheet.ciiva.com/16210/cd00161566-16210248.pdf?src-supplier=Future+Electronics; ComponentLink3Description: https://datasheet.ciiva.com/16210/cd00161566-16210248.pdf?src-supplier=Future+Electronics; ComponentLink4URL: https://datasheet.ciiva.com/14100/pustm-arm-microcont-stm32f103-en-14100508.pdf?src-supplier=Distrelec; ComponentLink4Description: https://datasheet.ciiva.com/14100/pustm-arm-microcont-stm32f103-en-14100508.pdf?src-supplier=Distrelec; ComponentLink5URL: https://datasheet.ciiva.com/8054/1730126-8054942.pdf?src-supplier=Element14; ComponentLink5Description: https://datasheet.ciiva.com/8054/1730126-8054942.pdf?src-supplier=Element14; ComponentLink6URL: https://datasheet.ciiva.com/48687/001075658-da-01-en-mcu-64kb-mem-stm32f103c8t6-lqfp-48-stm-48687589.pdf?src-supplier=Conrad; ComponentLink6Description: https://datasheet.ciiva.com/48687/001075658-da-01-en-mcu-64kb-mem-stm32f103c8t6-lqfp-48-stm-48687589.pdf?src-supplier=Conrad
footprint LQFP48
pins: 1 VBAT, 2 PC13, 3 PC14/OSC32_IN, 4 PC15/OSC32_OUT, 5 OSC_IN, 6 OSC_OUT, 7 ~{RST}, 8 VSSA, 9 VDDA, 10 PA0, 11 PA1, 12 PA2, 13 PA3, 14 PA4, 15 PA5, 16 PA6, 17 PA7, 18 PB0, 19 PB1, 20 PB2, 21 PB10, 22 PB11, 23 VSS1, 24 VDD1, 25 PB12, 26 PB13, 27 PB14, 28 PB15, 29 PA8, 30 PA9, 31 PA10, 32 PA11, 33 PA12, 34 PA13 / SWDIO, 35 VSS2, 36 VDD2, 37 PA14 / JTCK, 38 PA15, 39 PB3, 40 PB4, 41 PB5, 42 PB6, 43 PB7, 44 BOOT0, 45 PB8, 46 PB9, 47 VSS3, 48 VDD3

## STM32F103VET6
designator U?
footprint LQFP100
part A pins: 1 TRACECK/FSMC_A23/PE2, 2 TRACED0/FSMC_A19/PE3, 3 TRACED1/FSMC_A20/PE4, 4 TRACED2/FSMC_A21/PE5, 5 TRACED3/FSMC_A22/PE6, 7 PC13-TAMPER-RTC, 8 PC14/OSC32_IN, 9 PC15-OSC32_OUT, 12 OSC_IN, 13 OSC_OUT, 14 NRST, 15 PC0/ADC123_IN10, 16 PC1/ADC123_IN11, 17 PC2/ADC123_IN12, 18 PC3/ADC123_IN13, 23 PA0-WKUP/USART2_CTS/ADC123_IN0/TIM2_CH1_ETR/TIM5_CH1/TIM8_ETR, 24 PA1/USART2_RTS/ADC123_IN1/TIM5_CH2/TIM2_CH2, 25 PA2/USART2_TX/TIM5_CH3/ADC123_IN2/TIM2_CH3, 26 PA3/USART2_RX/TIM5_CH4/ADC123_IN3/TIM2_CH4, 29 PA4/SPI1_NSS/USART2_CK/DAC_OUT1/ADC12_IN4, 30 PA5/SPI1_SCK/DAC_OUT2/ADC12_IN5, 31 PA6/SPI1_MISO/TIM8_BKIN/ADC12_IN6/TIM3_CH1/(TIM1_BKIN), 32 PA7/SPI1_MOSI/TIM8_CH1N/ADC12_IN7/TIM3_CH2/(TIM1_CH1N), 33 PC4/ADC12_IN14, 34 PC5/ADC12_IN15, 35 PB0/ADC12_IN8/TIM3_CH3/TIM8_CH2N/(TIM1_CH2N), 36 PB1/ADC12_IN9/TIM3_CH4/TIM8_CH3N/(TIM1_CH3N), 37 PB2/BOOT1, 38 (TIM1_ETR)/FSMC_D4/PE7, 39 (TIM1_CH1N)/FSMC_D5/PE8, 40 (TIM1_CH1)/FSMC_D6/PE9, 41 (TIM1_CH2N)/FSMC_D7/PE10, 42 (TIM1_CH2)/FSMC_D8/PE11, 43 (TIM1_CH3N)/FSMC_D9/PE12, 44 (TIM1_CH3)/FSMC_D10/PE13, 45 (TIM1_CH4)/FSMC_D11/PE14, 46 (TIM1_BKIN)/FSMC_D12/PE15, 47 PB10/I2C2_SCL/USART3_TX/(TIM2_CH3), 48 PB11/I2C2_SDA/USART3_RX/(TIM2_CH4), 51 PB12/SPI2_NSS/I2S2_WS/I2C2_SMBA/USART3_CK/TIM1_BKIN, 52 PB13/SPI2_SCK/I2S2_CK/USART3_CTS/TIM1_CH1N, 53 PB14/SPI2_MISO/TIM1_CH2N/USART3_RTS, 54 PB15/SPI2_MOSI/I2S2_SD/TIM1_CH3N, 55 (USART3_TX)/FSMC_D13/PD8, 56 (USART3_RX)/FSMC_D14/PD9, 57 (USART3_CK)/FSMC_D15/PD10, 58 (USART3_CTS)/FSMC_A16/PD11, 59 (TIM4_CH1/USART3_RTS)/FSMC_A17/PD12, 60 (TIM4_CH2)/FSMC_A18/PD13, 61 (TIM4_CH3)/FSMC_D0/PD14, 62 (TIM4_CH4)/FSMC_D1/PD15, 63 PC6/I2S2_MCK/TIM8_CH1/SDIO_D6/(TIM3_CH1), 64 PC7/I2S3_MCK/TIM8_CH2/SDIO_D7/(TIM3_CH2), 65 PC8/TIM8_CH3/SDIO_D0/(TIM3_CH3), 66 PC9/TIM8_CH4/SDIO_D1/(TIM3_CH4), 67 PA8/USART1_CK/TIM1_CH1/MCO, 68 PA9/USART1_TX/TIM1_CH2, 69 PA10/USART1_RX/TIM1_CH3, 70 PA11/USART1_CTS/USBDM/CAN_RX/TIM1_CH4, 71 PA12/USART1_RTS/USBDP/CAN_TX/TIM1_ETR, 72 JTMS-SWDIO/(PA13), 76 JTCK-SWCLK/(PA14), 77 JTDI/SPI3_NSS/I2S3_WS/(PA15/TIM2_CH1_ETR/SPI1_NSS), 78 PC10/USART4_TX/SDIO_D2/(USART3_TX), 79 PC11/USART4_RX/SDIO_D3/(USART3_RX), 80 PC12/USART5_TX/SDIO_CK/(USART3_CK), 81 (CAN_RX)/FSMC_D2/PD0, 82 (CAN_TX)/FSMC_D3/PD1, 83 TIM3_ETR/USART5_RX/SDIO_CMD/PD2, 84 (USART2_CTS)/FSMC_CLK/PD3, 85 (USART2_RTS)/FSMC_NOE/PD4, 86 (USART2_TX)/FSMC_NWE/PD5, 87 (USART2_RX)/FSMC_NWAIT/PD6, 88 (USART2_CK)/FSMC_NE1/FSMC_NCE2/PD7, 89 JTDO/SPI3_SCK/I2S3_CK/(PB3/TRACESWO/TIM2_CH2/SPI1_SCK), 90 NJTRST/SPI3_MISO/(PB4/TIM3_CH1/SPI1_MISO), 91 PB5/I2C1_SMBA/SPI3_MOSI/I2S3_SD/(TIM3_CH2/SPI1_MOSI), 92 PB6/I2C1_SCL/TIM4_CH1/(USART1_TX), 93 PB7/I2C1_SDA/FSMC_NADV/TIM4_CH2/(USART1_RX), 94 BOOT0, 95 PB8/TIM4_CH3/SDIO_D4/(I2C1_SCL/CAN_RX), 96 PB9/TIM4_CH4/SDIO_D5/(I2C1_SDA/CAN_TX), 97 TIM4_ETR/FSMC_NBL0/PE0, 98 FSMC_NBL1/PE1
part B pins: 6 VBAT, 10 VSS_5, 11 VDD_5, 19 VSSA, 20 VREF-, 21 VREF+, 22 VDDA, 27 VSS_4, 28 VDD_4, 49 VSS_1, 50 VDD_1, 74 VSS_2, 75 VDD_2, 99 VSS_3, 100 VDD_3

## SWITCH_6P
designator SW?, comment TL2285EE  (value not drawn)
SWITCH PUSH DPDT 0.1A 30V; Manufacturer: E-Switch; Current Rating: 100mA; Switch Function: On-On; Contact Resistance: 100mR; Electrical Life: 10000Cycles; Illumination Type: Illuminated; Actuator Length: 3mm; Supplier 1: Digi-Key; Supplier Part Number 1: EG1872-ND; Manufacturer Part Number: TL2285EE; Stock 1: 1619; Pricing 1: 1 = 0.89000, 10 = 0.82700, 25 = 0.78800, 50 = 0.74860, 100 = 0.72890, 250 = 0.70920, 500 = 0.66980, 1000 = 0.63040, 5000 = 0.53190 (USD); RoHS: Yes; Mount: Through Hole; Contact Plating: Silver; Housing Material: PBT; Voltage Rating (DC): 30V; Throw Configuration: DPDT; Packaging: Bulk; Package Quantity: 1000; Termination: PC Pin; Max Voltage Rating (DC): 30V; Orientation: Straight; Contact Current Rating: 100mA; Lead Free: Lead Free; ComponentLink1URL: https://datasheet.ciiva.com/2870/tl2285ee-2870113.pdf?src-supplier=Digi-Key; ComponentLink1Description: https://datasheet.ciiva.com/2870/tl2285ee-2870113.pdf?src-supplier=Digi-Key; ComponentLink2URL: https://datasheet.ciiva.com/16192/q228501-16192230.pdf?src-supplier=Onlinecomponents.com; ComponentLink2Description: https://datasheet.ciiva.com/16192/q228501-16192230.pdf?src-supplier=Onlinecomponents.com
footprint SWITCH_6P_8X8_DPDT
pins: 1 NC1, 2 NO1, 3 COM1, 4 NC2, 5 NO2, 6 COM2

## TESTPOINT
designator TP?, comment Test Point  (no BOM)
Test Point 1mm
footprint TESTPOINT
pins: 1

## TestPoint_0.6x1.2
designator TP?, comment Test point 0.6x1.2  (value not drawn)
footprint TESTPOINT 0.6X1.2
pins: 1

## THERMISTOR10K_MF52A2103J3470
designator RT?, comment MF52A2103J3470
THERMISTOR NTC 10KOHM 3470K BEAD; Manufacturer: Canadian Thermostats; Tolerance: 5%; Max Power Dissipation: 50mW; Supplier 1: Digi-Key; Supplier Part Number 1: 317-1258-ND; Manufacturer Part Number: MF52A2103J3470; Stock 1: 14850; Pricing 1: 1 = 0.43000, 5 = 0.41000, 10 = 0.36500, 25 = 0.33600, 50 = 0.26860, 100 = 0.23030, 500 = 0.20150, 1000 = 0.17271, 5000 = 0.15352 (USD); RoHS: Yes; Mount: Through Hole; Min Operating Temperature: -55°C; Max Operating Temperature: 125°C; Package Quantity: 500; Packaging: Bulk; ComponentLink1URL: https://datasheet.ciiva.com/2849/cantherm-mf52-1-2849107.pdf?src-supplier=Digi-Key; ComponentLink1Description: https://datasheet.ciiva.com/2849/cantherm-mf52-1-2849107.pdf?src-supplier=Digi-Key
footprint THERMISTOR_DIP
pins: 1, 2

## TP_1.1X1.6
designator TP?, comment TP  (value not drawn)  (no BOM)
footprint TP_1.1X1.6
pins: 1

## TPS54331
designator U?, comment TPS54331DR
IC REG BUCK ADJ 3A 8SOIC; Manufacturer: Texas Instruments; Output Voltage: 25V; Number of Outputs: 1; Switching Frequency: 570kHz; Max Input Voltage: 28V; Min Input Voltage: 3.5V; Min Output Voltage: 800mV; Synchronous Rectifier: No; Quiescent Current: 110uA; Output Type: Adjustable; Output Configuration: Positive; Element Configuration: Single; Max Repetitive Reverse Voltage (Vrrm): 40V; Max Forward Surge Current (Ifsm): 80A; Supplier 1: Digi-Key; Supplier Part Number 1: 296-26991-1-ND; Manufacturer Part Number: TPS54331DR; Stock 1: 6297; Pricing 1: 1 = 1.60000, 10 = 1.44100, 25 = 1.35960, 100 = 1.08770, 250 = 0.95172, 500 = 0.92452, 1000 = 0.73418 (USD); RoHS: Yes; Case/Package: D; Number of Pins: 8; Weight: 0.002561oz; Contact Plating: Gold; Min Operating Temperature: -40°C; Max Operating Temperature: 150°C; Output Current: 3A; Packaging: Tape and Reel; Package Quantity: 1; Max Output Current: 3A; Max Output Voltage: 25V; Operating Supply Voltage: 28V; Length: 5mm; Height: 1.5mm; Width: 4mm; Radiation Hardening: No; Lead Free: Lead Free; REACH SVHC: No SVHC; ComponentLink1URL: https://datasheet.ciiva.com/41462/001014850-da-01-en-ic-reg-buck-adj-3a-tps54331dr-soic-8-tid-41462698.pdf?src-supplier=Conrad; ComponentLink1Description: https://datasheet.ciiva.com/41462/001014850-da-01-en-ic-reg-buck-adj-3a-tps54331dr-soic-8-tid-41462698.pdf?src-supplier=Conrad; ComponentLink2URL: https://datasheet.ciiva.com/2034/tps54331-2034840.pdf?src-supplier=Digi-Key; ComponentLink2Description: https://datasheet.ciiva.com/2034/tps54331-2034840.pdf?src-supplier=Digi-Key; ComponentLink3URL: https://datasheet.ciiva.com/14303/tps54331-14303672.pdf?src-supplier=Avnet; ComponentLink3Description: https://datasheet.ciiva.com/14303/tps54331-14303672.pdf?src-supplier=Avnet; ComponentLink4URL: https://datasheet.ciiva.com/2034/tps54331-2034841.pdf?src-supplier=Digi-Key; ComponentLink4Description: https://datasheet.ciiva.com/2034/tps54331-2034841.pdf?src-supplier=Digi-Key; ComponentLink5URL: https://datasheet.ciiva.com/2034/tps54331-2034842.pdf?src-supplier=Digi-Key; ComponentLink5Description: https://datasheet.ciiva.com/2034/tps54331-2034842.pdf?src-supplier=Digi-Key; ComponentLink6URL: https://datasheet.ciiva.com/16536/tps54331-16536202.pdf?src-supplier=Avnet+Asia; ComponentLink6Description: https://datasheet.ciiva.com/16536/tps54331-16536202.pdf?src-supplier=Avnet+Asia; ComponentLink7URL: https://datasheet.ciiva.com/26105/tps54331-26105820.pdf?src-supplier=Avnet+Europe; ComponentLink7Description: https://datasheet.ciiva.com/26105/tps54331-26105820.pdf?src-supplier=Avnet+Europe; Supplier 2: Digi-Key; Supplier Part Number 2: SS34FACT-ND; Stock 2: 5610; Pricing 2: 1 = 0.36000, 10 = 0.29000, 100 = 0.16690, 500 = 0.15450, 1000 = 0.10506 (USD); Mount: Surface Mount; Average Rectified Current: 3A; Max Reverse Voltage (DC): 40V; ComponentLink8URL: http://www.mouser.com/ds/2/149/SS34FA-1012641.pdf?src-supplier=Mouser; ComponentLink8Description: http://www.mouser.com/ds/2/149/SS34FA-1012641.pdf?src-supplier=Mouser; ComponentLink9URL: http://www.farnell.com/datasheets/2552647.pdf?src-supplier=Farnell; ComponentLink9Description: http://www.farnell.com/datasheets/2552647.pdf?src-supplier=Farnell; ComponentLink10URL: https://www.fairchildsemi.com/datasheets/SS/SS34FA.pdf?src-supplier=Digi-Key; ComponentLink10Description: https://www.fairchildsemi.com/datasheets/SS/SS34FA.pdf?src-supplier=Digi-Key
footprint SOIC8
pins: 1 BOOT, 2 VIN, 3 EN, 4 SS, 5 VSENSE, 6 COMP, 7 GND, 8 PH